# Altium footprint library SON50P210X160X65_HS-9N.PcbLib: 1 footprints
Each footprint in its own frame and in the unit in brackets; x right, y up, seen from the top. Pads: shape width x height; smd on the part's side, far side on the other; paste and mask are expansions set on the pad; w line width, h text height; cw(c..) or ccw(c..) is an arc to the next point about the centre after c.
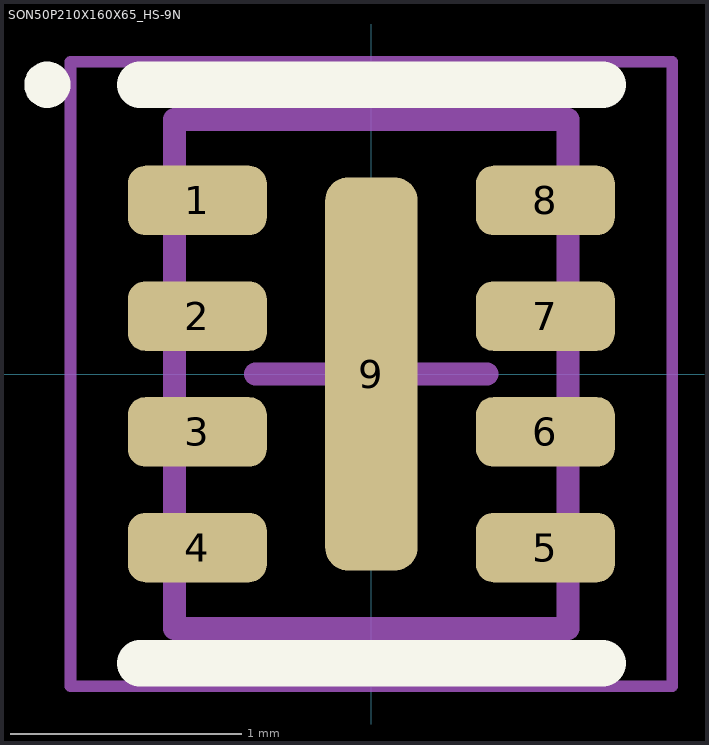
[diagram p0: the footprint, top view; thin cyan lines are the x and y axes]

## SON50P210X160X65_HS-9N [mm] "SON, 8-Leads, Body 2.10x1.60mm, Pitch 0.50mm, Thermal Pad 1.70x0.31mm, IPC Medium Density"
height 0.65
pads (9):
  rrect50% 0.6x0.3 smd mask+0.05: 1(-0.752,0.75) 2(-0.752,0.25) 3(-0.752,-0.25) 4(-0.752,-0.75) 5(0.752,-0.75) 6(0.752,-0.25) 7(0.752,0.25) 8(0.752,0.75)
  rrect50% 0.4x1.7 smd mask+0.05: 9(0,0)
Top Overlay:
  circle w0.1: c-1.4,1.25 r0.05
  lines w0.2: -1,-1.25 1,-1.25 ; -1,1.25 1,1.25
Top Assembly:
  lines w0.1: -0.5,0 0.5,0 ; 0,-0.5 0,0.5 ; -0.85,-1.1 -0.85,1.1 0.85,1.1 0.85,-1.1 -0.85,-1.1
Top Courtyard:
  lines w0.05: -1.3,-1.35 -1.3,1.35 1.3,1.35 1.3,-1.35 -1.3,-1.35
3D body "SON50P160X65_HS-9N.step": height 0.65, standoff 0, extent -0.9,-1.1 0.9,1.1